# EAGLE library part SPARK_PHOTON_SHIELD_TEMPLATE (library Magister-Libraries)
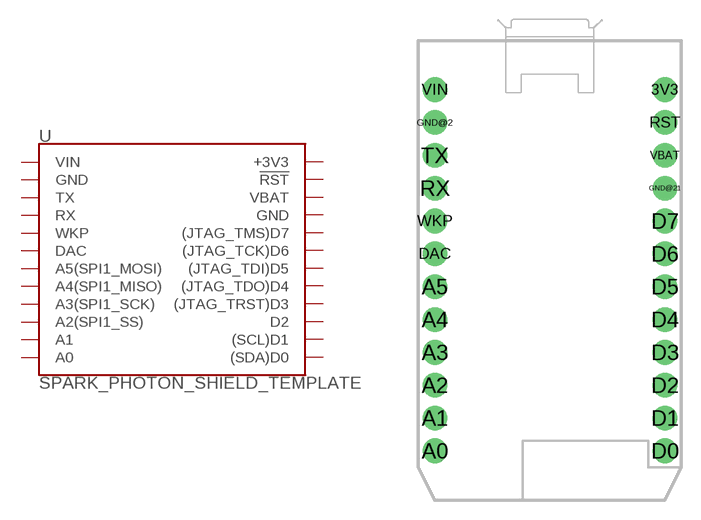
[diagram p5: symbol with the pads of SPARK_PHOTON_SHIELD_TEMPLATE; footprint SPARK_PHOTON_SHIELD_TEMPLATE]

Designator prefix -

## SPARK_PHOTON_SHIELD_TEMPLATE  [SPARK_PHOTON_SHIELD_TEMPLATE]
3V3  +3V3
A0  A0
A1  A1
A2  A2(SPI1_SS)
A3  A3(SPI1_SCK)
A4  A4(SPI1_MISO)
A5  A5(SPI1_MOSI)
D0  (SDA)D0
D1  (SCL)D1
D2  D2
D3  (JTAG_TRST)D3
D4  (JTAG_TDO)D4
D5  (JTAG_TDI)D5
D6  (JTAG_TCK)D6
D7  (JTAG_TMS)D7
DAC  DAC
GND@2  GND
GND@21  GND
RST  !RST!
RX  RX
TX  TX
VBAT  VBAT
VIN  VIN
WKP  WKP

## Footprint SPARK_PHOTON_SHIELD_TEMPLATE (pad centres in mm)
drill 1.016 pad 1.905: 3V3 19.05,31.75; A0 1.27,3.81; A1 1.27,6.35; A2 1.27,8.89; A3 1.27,11.43; A4 1.27,13.97; A5 1.27,16.51; D0 19.05,3.81; D1 19.05,6.35; D2 19.05,8.89; D3 19.05,11.43; D4 19.05,13.97; D5 19.05,16.51; D6 19.05,19.05; D7 19.05,21.59; DAC 1.27,19.05; GND@2 1.27,29.21; GND@21 19.05,24.13; RST 19.05,29.21; RX 1.27,24.13; TX 1.27,26.67; VBAT 19.05,26.67; VIN 1.27,31.75; WKP 1.27,21.59